# EAGLE library part 2604-3104 (library 2604-3104)
PCB terminal block; lever; 4 mm; Pin spacing 5 mm; 4-pole; Push-in CAGE CLAMP Source: Datasheet <https://www.wago.com/2604-3104>
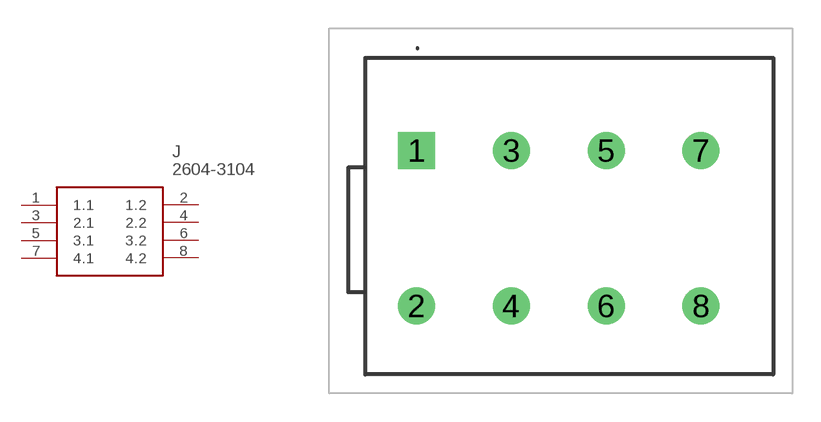
[diagram p0: symbol with the pads of 26043104; footprint 26043104]

Designator prefix J

## 2604-3104 (Arrow_Part_Number: 2604-3104; Arrow_Price-Stock: https://www.arrow.com/en/products/2604-3104/wago-kontakttechnik-gmbh?region=nac; Description: PCB terminal block; lever; 4 mm; Pin spacing 5 mm; 4-pole; Push-in CAGE CLAMP; Height: 21.3mm; Manufacturer_Name: Wago; Manufacturer_Part_Number: 2604-3104)  [26043104]
1  1.1
2  1.2
3  2.1
4  2.2
5  3.1
6  3.2
7  4.1
8  4.2

## Footprint 26043104 (pad centres in mm)
2604-3104
drill 1.3 pad 1.95 square: 1 0,0
drill 1.3 pad 1.95: 2 0,-8.2; 3 5,0; 4 5,-8.2; 5 10,0; 6 10,-8.2; 7 15,0; 8 15,-8.2